# Altium integrated library LTV-845S.IntLib: 1 symbol
Pins are listed as number, name and electrical type; pins without a type are passive.

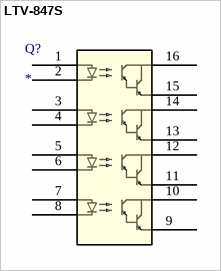
[diagram p0: symbol LTV-847S]

## LTV-847S
designator Q?
No Description Available; Mfr_Name: LITE-ON; RefDes: RefDes; Type: Type
footprint LTV-847S_LTO
pins: 1, 2, 3, 4, 5, 6, 7, 8, 9, 10, 11, 12, 13, 14, 15, 16